# Altium footprint library Harwin Connectors.PcbLib: 1 footprints
Each footprint in its own frame and in the unit in brackets; x right, y up, seen from the top. Pads: shape width x height; smd on the part's side, far side on the other; paste and mask are expansions set on the pad; w line width, h text height; cw(c..) or ccw(c..) is an arc to the next point about the centre after c.
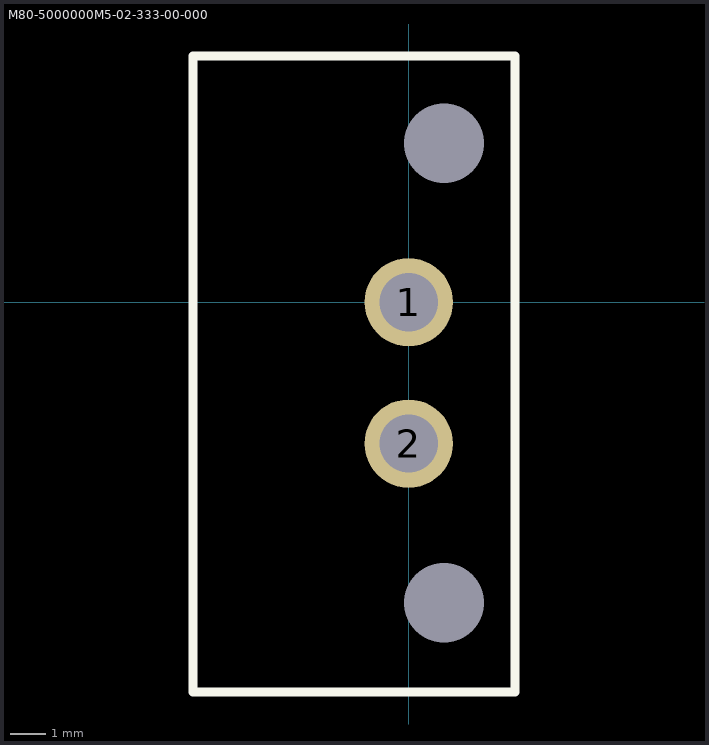
[diagram p0: the footprint, top view; thin cyan lines are the x and y axes]

## M80-5000000M5-02-333-00-000 [mm]
pads (4):
  round 2.5 hole 1.65: 1(0,0) 2(0,-4)
  round 0 hole 2.25: 4(1,4.5) 5(1,-8.5)
Top Overlay:
  lines w0.254: -6.096,-11.032 -6.096,6.968 3.004,6.968 3.004,-11.032 -6.096,-11.032
3D body "m80-5000000m5-02-333-00-000_asm.stp": height 6.33, standoff -4.42, extent -6.096,-11.032 3.004,6.968